# Altium schematic symbol library Cell.SchLib: 1 symbol
Pins are listed as number, name and electrical type; pins without a type are passive.

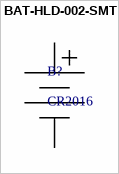
[diagram p0: symbol BAT-HLD-002-SMT]

## BAT-HLD-002-SMT
designator B?, comment CR2016
BAT-HLD-002-SMT
footprint CR2012 (BAT-HLD-002-SMT)
pins: 1, 2